# Altium schematic symbol library L717SDE09P1ACH.SchLib: 1 symbol
Pins are listed as number, name and electrical type; pins without a type are passive.

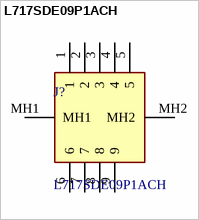
[diagram p0: symbol L717SDE09P1ACH]

## L717SDE09P1ACH
designator J?
Dsub, Stamped Signal 3A, Right Angle PCB Through Hole, FP=10.40mm (0.409in), Row Pitch 2.54mm, 9 Pin, Flash Gold, Bright Tin Shell+Grounding Dimples, 3.05mm  (0.120in) Clear Hole, Ground Tab with Boardlock; Manufacturer_Name: Amphenol Communications Solutions; Geometry.Height: 12.93mm; Mouser Part Number: 523-L717SDE09P1ACH; Mouser Price/Stock: https://www.mouser.co.uk/ProductDetail/Amphenol-Commercial-Products/L717SDE09P1ACH?qs=ToP8pWlZ0bM4QYgeUn06cg%3D%3D; Manufacturer_Part_Number: L717SDE09P1ACH; Datasheet Link: https://cdn.amphenol-cs.com/media/wysiwyg/files/drawing/l717sdxxxp1ach.pdf
footprint L717SDE09P1ACH
pins: 1, 2, 3, 4, 5, 6, 7, 8, 9, MH1, MH2